# EAGLE library part FTOP-18 (library con-amp)
AMP connector
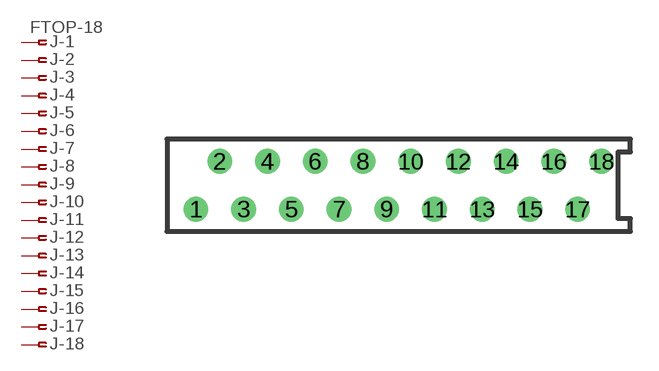
[diagram p83: symbol with the pads of FTOP-18; footprint FTOP-18]

Designator prefix J; gates -1=PIN-FV -2=PIN-F -3=PIN-F -4=PIN-F -5=PIN-F -6=PIN-F -7=PIN-F -8=PIN-F -9=PIN-F -10=PIN-F -11=PIN-F -12=PIN-F -13=PIN-F -14=PIN-F -15=PIN-F -16=PIN-F -17=PIN-F -18=PIN-F

## FTOP-18  [FTOP-18]
1  -1:1  pas
2  -2:1  pas
3  -3:1  pas
4  -4:1  pas
5  -5:1  pas
6  -6:1  pas
7  -7:1  pas
8  -8:1  pas
9  -9:1  pas
10  -10:1  pas
11  -11:1  pas
12  -12:1  pas
13  -13:1  pas
14  -14:1  pas
15  -15:1  pas
16  -16:1  pas
17  -17:1  pas
18  -18:1  pas

## Footprint FTOP-18 (pad centres in mm)
AMP connector
drill 0.813: 1 -10.795,-1.27; 2 -9.525,1.27; 3 -8.255,-1.27; 4 -6.985,1.27; 5 -5.715,-1.27; 6 -4.445,1.27; 7 -3.175,-1.27; 8 -1.905,1.27; 9 -0.635,-1.27; 10 0.635,1.27; 11 1.905,-1.27; 12 3.175,1.27; 13 4.445,-1.27; 14 5.715,1.27; 15 6.985,-1.27; 16 8.255,1.27; 17 9.525,-1.27; 18 10.795,1.27